# Altium footprint library Sensor_Motion.PcbLib: 5 footprints
Each footprint in its own frame and in the unit in brackets; x right, y up, seen from the top. Pads: shape width x height; smd on the part's side, far side on the other; paste and mask are expansions set on the pad; w line width, h text height; cw(c..) or ccw(c..) is an arc to the next point about the centre after c.
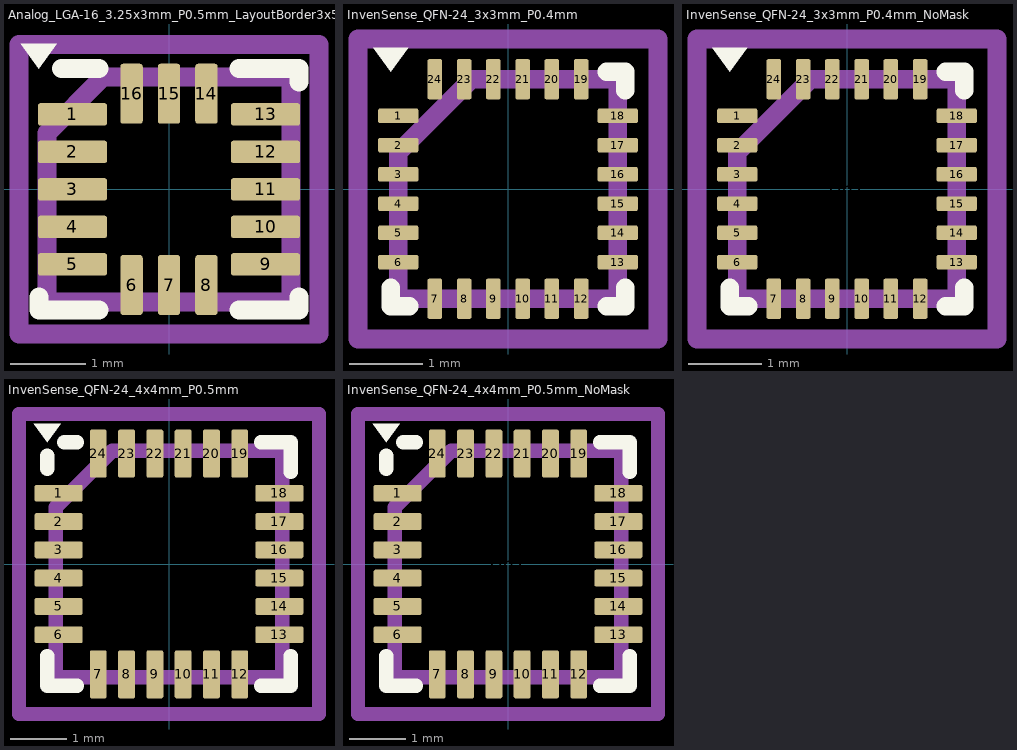
[diagram p0: the footprints below, top view; thin cyan lines are the x and y axes]

## Analog_LGA-16_3.25x3mm_P0.5mm_LayoutBorder3x5y [mm]
pads (16):
  rrect25% 0.925x0.3 smd: 1(-1.288,1) 2(-1.288,0.5) 3(-1.288,0) 4(-1.288,-0.5) 5(-1.288,-1) 9(1.288,-1) 10(1.288,-0.5) 11(1.288,0) 12(1.288,0.5) 13(1.288,1)
  rrect25% 0.3x0.8 smd: 6(-0.5,-1.275) 7(0,-1.275) 8(0.5,-1.275) 14(0.5,1.275) 15(0,1.275) 16(-0.5,1.275)
F.SilkS:
  region: -1.735,1.61 -1.975,1.94 -1.495,1.94
  lines w0.254: -1.735,-1.435 -1.735,-1.61 -0.935,-1.61 ; -1.435,1.61 -0.935,1.61 ; 0.935,-1.61 1.735,-1.61 1.735,-1.435 ; 0.935,1.61 1.735,1.61 1.735,1.435
F.Fab:
  lines w0.254: -1.625,-1.5 -1.625,0.75 -0.875,1.5 1.625,1.5 1.625,-1.5 -1.625,-1.5
  text "'.Designator'" at -2.023,-0.42 h0.5
F.CrtYd:
  lines w0.254: -2,-1.93 -2,1.93 2,1.93 2,-1.93 -2,-1.93

## InvenSense_QFN-24_3x3mm_P0.4mm [mm]
pads (24):
  rrect25% 0.55x0.2 smd: 1(-1.5,1) 2(-1.5,0.6) 3(-1.5,0.2) 4(-1.5,-0.2) 5(-1.5,-0.6) 6(-1.5,-1) 13(1.5,-1) 14(1.5,-0.6) 15(1.5,-0.2) 16(1.5,0.2) 17(1.5,0.6) 18(1.5,1)
  rrect25% 0.2x0.55 smd: 7(-1,-1.5) 8(-0.6,-1.5) 9(-0.2,-1.5) 10(0.2,-1.5) 11(0.6,-1.5) 12(1,-1.5) 19(1,1.5) 20(0.6,1.5) 21(0.2,1.5) 22(-0.2,1.5) 23(-0.6,1.5) 24(-1,1.5)
F.SilkS:
  region: -1.6,1.6 -1.84,1.93 -1.36,1.93
  lines w0.254: -1.6,-1.35 -1.6,-1.6 -1.35,-1.6 ; 1.35,-1.6 1.6,-1.6 1.6,-1.35 ; 1.35,1.6 1.6,1.6 1.6,1.35
F.Fab:
  lines w0.254: -1.5,-1.5 -1.5,0.5 -0.5,1.5 1.5,1.5 1.5,-1.5 -1.5,-1.5
  text "'.Designator'" at -2.833,-0.588 h0.7
F.CrtYd:
  lines w0.254: -2.05,-2.05 -2.05,2.05 2.05,2.05 2.05,-2.05 -2.05,-2.05
Cmts.User:
  text "No Copper" at -0.754,-0.073 h0.2
  text "KEEPOUT" at -0.636,0.36 h0.2
  text "Directly Below" at -0.949,-0.428 h0.2
  text "Component" at -0.796,-0.723 h0.2

## InvenSense_QFN-24_3x3mm_P0.4mm_NoMask [mm]
pads (25):
  rrect25% 0.55x0.2 smd: 1(-1.5,1) 2(-1.5,0.6) 3(-1.5,0.2) 4(-1.5,-0.2) 5(-1.5,-0.6) 6(-1.5,-1) 13(1.5,-1) 14(1.5,-0.6) 15(1.5,-0.2) 16(1.5,0.2) 17(1.5,0.6) 18(1.5,1)
  rrect25% 0.2x0.55 smd: 7(-1,-1.5) 8(-0.6,-1.5) 9(-0.2,-1.5) 10(0.2,-1.5) 11(0.6,-1.5) 12(1,-1.5) 19(1,1.5) 20(0.6,1.5) 21(0.2,1.5) 22(-0.2,1.5) 23(-0.6,1.5) 24(-1,1.5)
  rrect15% 1.75x1.59 on Top Solder: Un1(0,0)
F.SilkS:
  region: -1.6,1.6 -1.84,1.93 -1.36,1.93
  lines w0.254: -1.6,-1.35 -1.6,-1.6 -1.35,-1.6 ; 1.35,-1.6 1.6,-1.6 1.6,-1.35 ; 1.35,1.6 1.6,1.6 1.6,1.35
F.Fab:
  lines w0.254: -1.5,-1.5 -1.5,0.5 -0.5,1.5 1.5,1.5 1.5,-1.5 -1.5,-1.5
  text "'.Designator'" at -2.833,-0.588 h0.7
F.CrtYd:
  lines w0.254: -2.05,-2.05 -2.05,2.05 2.05,2.05 2.05,-2.05 -2.05,-2.05
Cmts.User:
  text "KEEPOUT" at -0.636,0.36 h0.2
  text "No Copper" at -0.754,-0.073 h0.2
  text "Component" at -0.796,-0.723 h0.2
  text "Directly Below" at -0.949,-0.428 h0.2

## InvenSense_QFN-24_4x4mm_P0.5mm [mm]
pads (24):
  rrect25% 0.85x0.3 smd: 1(-1.95,1.25) 2(-1.95,0.75) 3(-1.95,0.25) 4(-1.95,-0.25) 5(-1.95,-0.75) 6(-1.95,-1.25) 13(1.95,-1.25) 14(1.95,-0.75) 15(1.95,-0.25) 16(1.95,0.25) 17(1.95,0.75) 18(1.95,1.25)
  rrect25% 0.3x0.85 smd: 7(-1.25,-1.95) 8(-0.75,-1.95) 9(-0.25,-1.95) 10(0.25,-1.95) 11(0.75,-1.95) 12(1.25,-1.95) 19(1.25,1.95) 20(0.75,1.95) 21(0.25,1.95) 22(-0.25,1.95) 23(-0.75,1.95) 24(-1.25,1.95)
F.SilkS:
  region: -2.15,2.15 -2.39,2.48 -1.91,2.48
  lines w0.254: -2.15,-1.625 -2.15,-2.15 -1.625,-2.15 ; -2.15,1.685 -2.15,1.91 ; -1.85,2.15 -1.625,2.15 ; 1.625,-2.15 2.15,-2.15 2.15,-1.625 ; 1.625,2.15 2.15,2.15 2.15,1.625
F.Fab:
  lines w0.254: -2,-2 -2,1 -1,2 2,2 2,-2 -2,-2
  text "'.Designator'" at -4.047,-0.84 h1
F.CrtYd:
  lines w0.254: -2.65,-2.65 -2.65,2.65 2.65,2.65 2.65,-2.65 -2.65,-2.65
Cmts.User:
  text "Component" at -0.796,-0.723 h0.2
  text "KEEPOUT" at -0.636,0.36 h0.2
  text "No Copper" at -0.754,-0.073 h0.2
  text "Directly Below" at -0.949,-0.428 h0.2

## InvenSense_QFN-24_4x4mm_P0.5mm_NoMask [mm]
pads (25):
  rrect25% 0.85x0.3 smd: 1(-1.95,1.25) 2(-1.95,0.75) 3(-1.95,0.25) 4(-1.95,-0.25) 5(-1.95,-0.75) 6(-1.95,-1.25) 13(1.95,-1.25) 14(1.95,-0.75) 15(1.95,-0.25) 16(1.95,0.25) 17(1.95,0.75) 18(1.95,1.25)
  rrect25% 0.3x0.85 smd: 7(-1.25,-1.95) 8(-0.75,-1.95) 9(-0.25,-1.95) 10(0.25,-1.95) 11(0.75,-1.95) 12(1.25,-1.95) 19(1.25,1.95) 20(0.75,1.95) 21(0.25,1.95) 22(-0.25,1.95) 23(-0.75,1.95) 24(-1.25,1.95)
  rrect9% 2.75x2.65 on Top Solder: Un1(0,0)
F.SilkS:
  region: -2.15,2.15 -2.39,2.48 -1.91,2.48
  lines w0.254: -2.15,-1.625 -2.15,-2.15 -1.625,-2.15 ; -2.15,1.685 -2.15,1.91 ; -1.85,2.15 -1.625,2.15 ; 1.625,-2.15 2.15,-2.15 2.15,-1.625 ; 1.625,2.15 2.15,2.15 2.15,1.625
F.Fab:
  lines w0.254: -2,-2 -2,1 -1,2 2,2 2,-2 -2,-2
  text "'.Designator'" at -4.047,-0.84 h1
F.CrtYd:
  lines w0.254: -2.65,-2.65 -2.65,2.65 2.65,2.65 2.65,-2.65 -2.65,-2.65
Cmts.User:
  text "No Copper" at -0.754,-0.073 h0.2
  text "Directly Below" at -0.949,-0.428 h0.2
  text "Component" at -0.796,-0.723 h0.2
  text "KEEPOUT" at -0.636,0.36 h0.2